# Altium footprint library 同步整流.PcbLib: 23 footprints (part 1 of 2)
Each footprint in its own frame and in the unit in brackets; x right, y up, seen from the top. Pads: shape width x height; smd on the part's side, far side on the other; paste and mask are expansions set on the pad; w line width, h text height; cw(c..) or ccw(c..) is an arc to the next point about the centre after c.
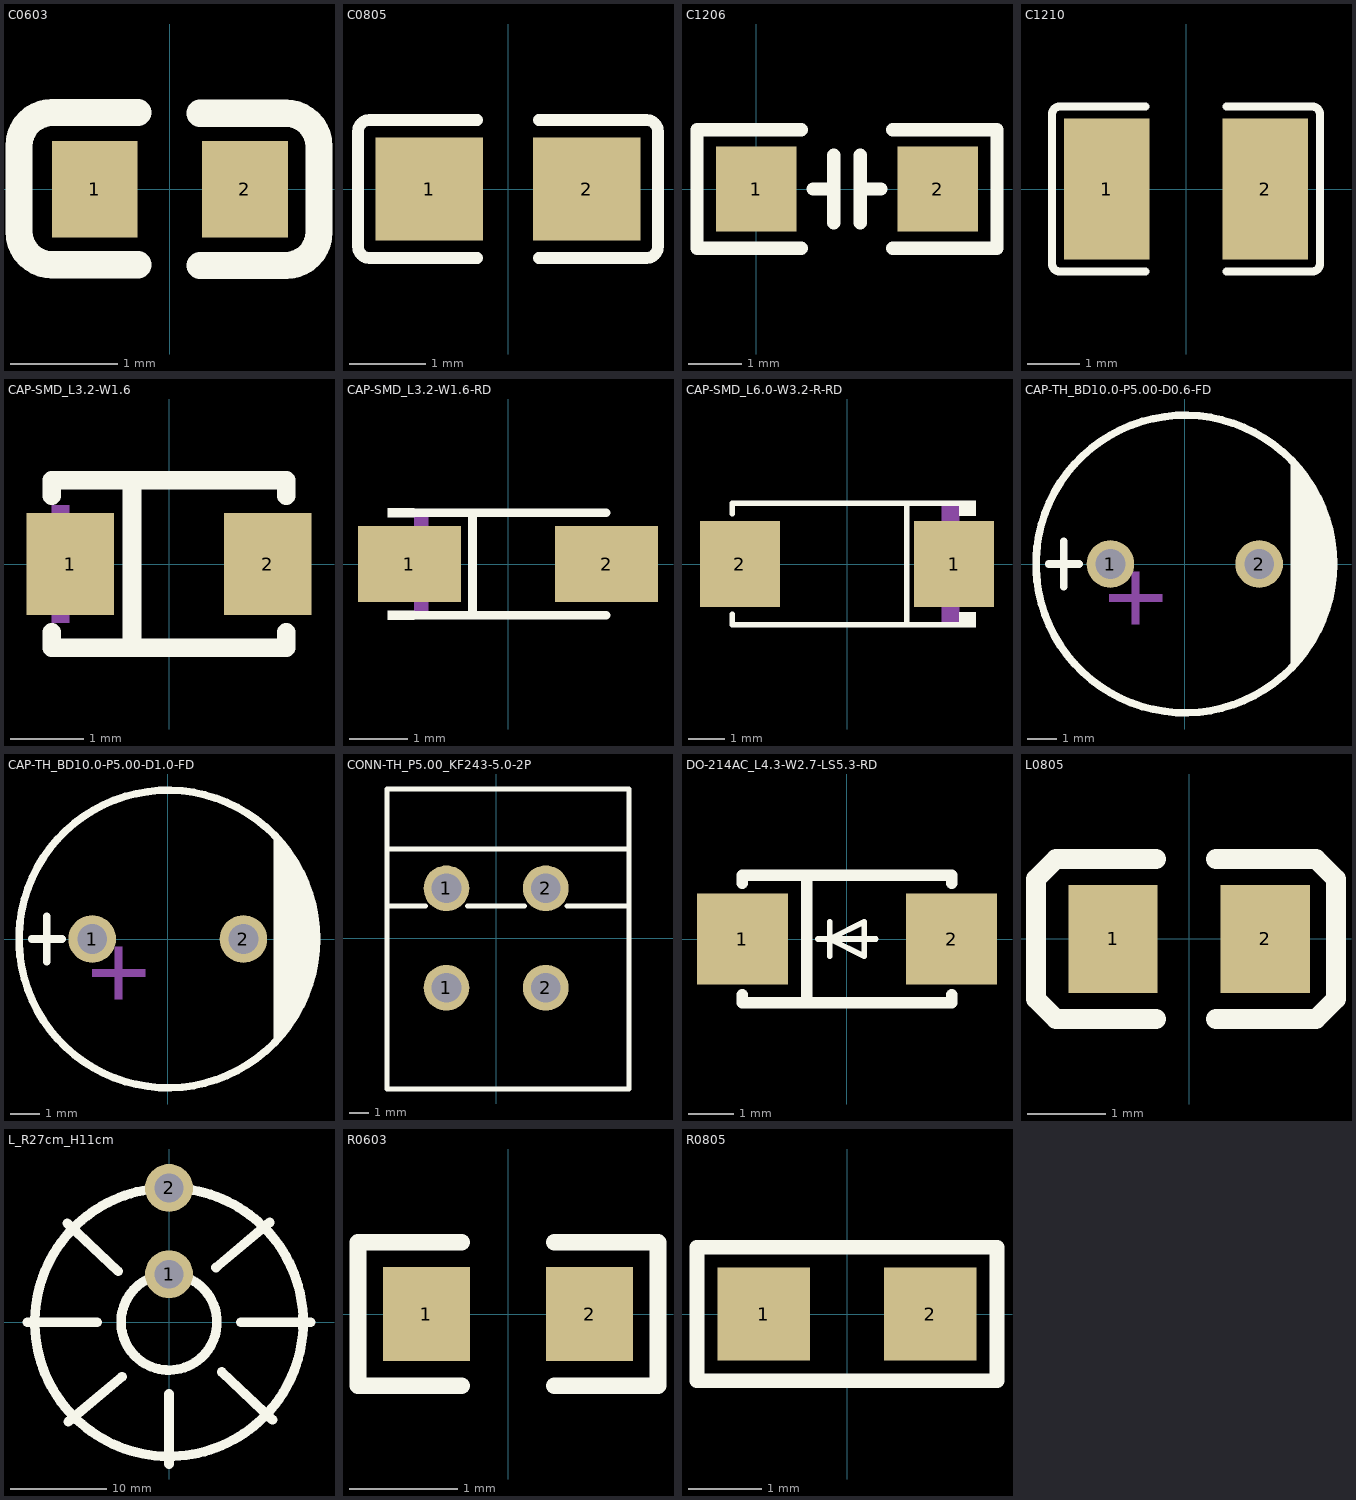
[diagram p0: the footprints below, top view; thin cyan lines are the x and y axes]

## C0603 [mm]
pads (2):
  rect 0.8x0.9 smd: 1(-0.7,0) 2(0.7,0)
Top Overlay:
  lines w0.254: -0.296,-0.704 -1.096,-0.704 cw(c-1.096,-0.394) -1.406,-0.394 -1.405,0.406 cw(c-1.096,0.406) -1.096,0.715 -0.296,0.715 ; 0.28,-0.71 1.08,-0.71 ccw(c1.08,-0.4) 1.39,-0.4 1.39,0.4 ccw(c1.08,0.4) 1.08,0.71 0.28,0.71

## C0805 [mm]
pads (2):
  rect 1.41x1.35 smd: 1(-1.03,0) 2(1.03,0)
Top Overlay:
  lines w0.152: -0.401,-0.904 -1.811,-0.904 cw(c-1.811,-0.751) -1.964,-0.751 -1.964,0.751 cw(c-1.811,0.751) -1.811,0.904 -0.401,0.904 ; 0.401,-0.904 1.811,-0.904 ccw(c1.811,-0.751) 1.964,-0.751 1.964,0.751 ccw(c1.811,0.751) 1.811,0.904 0.401,0.904
Top Paste:
  region: 0.475,-0.62 0.475,-0.2 0.92,-0.2 0.92,0.25 0.48,0.25 0.475,0.66 0.525,0.71 1.675,0.71 1.725,0.66 1.725,-0.62 1.675,-0.67 0.525,-0.67
  region: -1.675,-0.62 -1.675,0.66 -1.625,0.71 -0.475,0.71 -0.425,0.66 -0.42,0.25 -0.87,0.25 -0.87,-0.2 -0.43,-0.2 -0.425,-0.62 -0.475,-0.67 -1.625,-0.67

## C1206 [mil]
pads (2):
  rect 60x62.99 smd: 1(0,0) 2(135,0)
Top Overlay:
  lines w10: 33.5,-44 -44,-44 -44,44 33.5,44 ; 42.5,0 57.5,0 ; 57.5,-25 57.5,25 ; 77.5,-25 77.5,25 ; 77.5,0 92.5,0 ; 101.5,-44 179,-44 179,44 101.5,44

## C1210 [mm]
pads (2):
  rect 1.635x2.7 smd: 1(-1.517,0) 2(1.517,0)
Top Overlay:
  lines w0.152: -0.776,-1.579 -2.411,-1.579 cw(c-2.411,-1.426) -2.564,-1.426 -2.564,1.426 cw(c-2.411,1.426) -2.411,1.579 -0.776,1.579 ; 0.776,-1.579 2.411,-1.579 ccw(c2.411,-1.426) 2.564,-1.426 2.564,1.426 ccw(c2.411,1.426) 2.411,1.579 0.776,1.579
Top Paste:
  region: -0.7,-1.25 -0.7,-0.559 -0.8,-0.459 -1.156,-0.459 -1.256,-0.359 -1.256,0.359 -1.156,0.459 -0.8,0.459 -0.7,0.559 -0.7,1.25 -0.8,1.35 -2.235,1.35 -2.335,1.25 -2.335,-1.25 -2.235,-1.35 -0.8,-1.35
  region: 0.7,-1.25 0.7,-0.559 0.8,-0.459 1.156,-0.459 1.256,-0.359 1.256,0.359 1.156,0.459 0.8,0.459 0.7,0.559 0.7,1.25 0.8,1.35 2.235,1.35 2.335,1.25 2.335,-1.25 2.235,-1.35 0.8,-1.35

## CAP-SMD_L3.2-W1.6 [mm]
pads (2):
  rect 1.2x1.4 smd: 1(-1.35,0) 2(1.35,0)
Top Overlay:
  region: -0.635,1.143 -0.381,1.143 -0.381,-1.143 -0.508,-1.143 -0.635,-1.143
  lines w0.254: -1.6,-0.931 -1.6,-1.143 -0.128,-1.143 1.6,-1.143 1.6,-0.931 ; -1.6,0.931 -1.6,1.143 1.6,1.143 1.6,0.931
Mechanical 15:
  region: -1.6,-0.8 -1.6,-0.4 -1.36,-0.4 -1.36,-0.8
  region: -1.6,0.8 -1.6,0.4 -1.36,0.4 -1.36,0.8
  region: -1.3,0.4 -1.3,-0.4 -1.18,-0.4 -1.18,0.4
  region: -1.48,0.06 -1.48,-0.06 -1,-0.06 -1,0.06
  region: 1.48,0.06 1.48,-0.06 1,-0.06 1,0.06

## CAP-SMD_L3.2-W1.6-RD [mm]
pads (2):
  rect 1.758x1.296 smd: 1(-1.686,0) 2(1.686,0)
Top Overlay:
  region: -1.6,0.952 -1.6,0.8 -2.057,0.8 -2.057,0.952
  region: -1.6,-0.952 -1.6,-0.8 -2.057,-0.8 -2.057,-0.952
  lines w0.152: -1.676,-0.876 1.676,-0.876 ; -1.676,0.876 1.676,0.876 ; -0.604,-0.876 -0.604,0.876
Mechanical 15:
  region: -1.6,-0.8 -1.6,-0.4 -1.36,-0.4 -1.36,-0.8
  region: -1.6,0.8 -1.6,0.4 -1.36,0.4 -1.36,0.8
  region: -1.3,0.4 -1.3,-0.4 -1.18,-0.4 -1.18,0.4
  region: -1.48,0.06 -1.48,-0.06 -1,-0.06 -1,0.06
  region: 1.48,0.06 1.48,-0.06 1,-0.06 1,0.06

## CAP-SMD_L6.0-W3.2-R-RD [mm]
pads (2):
  rect 2.207x2.376 smd: 1(2.961,0) 2(-2.961,0)
Top Overlay:
  region: 3.1,1.752 3.1,1.34 3.557,1.34 3.557,1.752
  region: 3.1,-1.752 3.1,-1.34 3.557,-1.34 3.557,-1.752
  lines w0.152: -3.176,-1.391 -3.176,-1.676 3.176,-1.676 ; -3.176,1.391 -3.176,1.676 3.176,1.676 ; 1.654,-1.676 1.654,1.676
Mechanical 15:
  region: -2.86,-0.12 -2.86,0.12 -1.9,0.12 -1.9,-0.12
  region: 2.86,-0.12 2.86,0.12 1.9,0.12 1.9,-0.12
  region: 2.5,-0.8 2.5,0.8 2.26,0.8 2.26,-0.8
  region: 3.1,-1.6 3.1,-0.8 2.62,-0.8 2.62,-1.6
  region: 3.1,1.6 3.1,0.8 2.62,0.8 2.62,1.6

## CAP-TH_BD10.0-P5.00-D0.6-FD [mm]
pads (2):
  round 1.6 hole 1: 1(-2.5,0) 2(2.5,0)
Top Overlay:
  circle w0.254: c0,0 r5
  region: 3.556,3.556 3.556,-3.556 4.318,-2.54 4.826,-1.016 5.08,0.508 4.826,1.524
  lines w0.254: -4.572,0 -3.556,0 ; -4.064,-0.762 -4.064,0.762
Mechanical 15:
  region: -2.54,-1.016 -0.762,-1.016 -0.762,-1.27 -2.54,-1.27
  region: -1.778,-0.762 -1.778,-2.032 -1.524,-2.032 -1.524,-0.254 -1.778,-0.254

## CAP-TH_BD10.0-P5.00-D1.0-FD [mm]
pads (2):
  round 1.6 hole 1: 1(-2.54,0) 2(2.54,0)
Top Overlay:
  circle w0.254: c0,0 r5
  region: 3.556,3.556 3.556,-3.556 4.318,-2.54 4.826,-1.016 5.08,0.508 4.826,1.524
  lines w0.254: -4.572,0 -3.556,0 ; -4.064,-0.762 -4.064,0.762
Mechanical 15:
  region: -1.778,-0.762 -1.778,-2.032 -1.524,-2.032 -1.524,-0.254 -1.778,-0.254
  region: -2.54,-1.016 -0.762,-1.016 -0.762,-1.27 -2.54,-1.27

## CONN-TH_P5.00_KF243-5.0-2P [mm]
pads (4):
  round 2.3 hole 1.5: 1(-2.5,-2.5) 1(-2.5,2.5) 2(2.5,-2.5) 2(2.5,2.5)
Top Overlay:
  lines w0.254: -5.5,1.616 -3.56,1.616 ; -5.5,4.49 6.7,4.49 ; -1.44,1.616 1.44,1.616 ; 3.56,1.616 6.7,1.616 ; -5.5,-7.6 -5.5,7.5 6.7,7.5 6.7,-7.6 -5.5,-7.6

## DO-214AC_L4.3-W2.7-LS5.3-RD [mm]
pads (2):
  rect 2x2 smd: 1(-2.3,0) 2(2.3,0)
Top Overlay:
  lines w0.127: -0.635,0 0.635,0 ; -0.381,-0.381 -0.381,0 ; -0.381,0.381 -0.381,0 ; -0.381,0 0.381,0.381 0.381,0 0.381,-0.381 -0.381,0
  lines w0.254: -2.3,-1.231 -2.3,-1.4 2.3,-1.4 2.3,-1.231 ; -2.3,1.231 -2.3,1.4 2.3,1.4 2.3,1.231 ; -0.889,-1.4 -0.889,1.4
Mechanical 15:
  region: 2.995,0.028 1.617,0.028 1.617,0.136 1.72,0.142 2.987,0.14 2.991,0.144 2.991,0.032 2.993,0.03
  region: 2.281,0.447 2.281,-0.425 2.283,-0.427 2.39,-0.427 2.395,-0.422 2.395,0.447 2.39,0.452 2.273,0.452
  region: -2.98,-0.157 -2.983,-0.14 -2.983,0.076 -1.619,0.074 -1.61,0.053 -1.61,-0.164

## L0805 [mm]
pads (2):
  rect 1.133x1.377 smd: 1(-0.966,0) 2(0.966,0)
Top Overlay:
  lines w0.254: -0.421,-1.016 -1.691,-1.016 -1.945,-0.762 -1.945,-0.635 -1.945,0.762 -1.691,1.016 -1.564,1.016 -0.421,1.016 ; 0.341,-1.016 1.484,-1.016 1.611,-1.016 1.865,-0.762 1.865,0.635 1.865,0.762 1.611,1.016 0.341,1.016
Top Paste:
  region: 0.36,-0.22 0.36,0.22 0.745,0.688 1.433,0.688 1.533,0.588 1.533,-0.589 1.433,-0.689 0.745,-0.689
  region: -0.36,-0.22 -0.36,0.22 -0.745,0.688 -1.433,0.688 -1.533,0.588 -1.533,-0.589 -1.433,-0.689 -0.745,-0.689

## L_R27cm_H11cm [mm]
pads (2):
  round 5 hole 3: 1(0,5) 2(0,14)
Top Overlay:
  circle w1: c0,0 r14
  circle w1: c0,0 r5
  lines w1: -14.8,0 -7.5,0 ; -10.6,10.3 -5.3,5.3 ; -10.5,-10.4 -4.9,-5.7 ; 0,-14.8 0,-7.5 ; 4.9,5.7 10.5,10.4 ; 5.5,-5.2 10.8,-10.2 ; 7.5,0 14.8,0
3D body "User Library-K32x16x8.STEP": height 12.79, standoff -2.54, extent -18.255,-17.785 18.066,19.84

## PCBComponent_1 [mm]

## R0603 [mm]
pads (2):
  rect 0.806x0.864 smd: 1(-0.753,0) 2(0.753,0)
Top Overlay:
  lines w0.152: -0.426,-0.661 -1.385,-0.661 -1.385,0.661 -0.426,0.661 ; 0.426,-0.661 1.385,-0.661 1.385,0.661 0.426,0.661
Top Paste:
  region: 1.195,0.45 0.395,0.45 0.345,0.4 0.345,0.172 0.715,0.172 0.715,-0.158 0.345,-0.158 0.345,-0.4 0.395,-0.45 1.195,-0.45 1.245,-0.4 1.245,0.4
  region: -0.355,0.4 -0.355,0.172 -0.735,0.172 -0.735,-0.158 -0.355,-0.158 -0.355,-0.4 -0.405,-0.45 -1.195,-0.45 -1.245,-0.4 -1.245,0.4 -1.195,0.45 -0.405,0.45

## R0805 [mil] "1/8W贴片电阻"
pads (2):
  rect 50x50 smd: 1(-45,0) 2(45,0)
Top Overlay:
  lines w8: -81,-36 -81,36 81,36 81,-36 -81,-36